# EAGLE library part AD7730 (library analog-devices)
Bridge Transducer ADC Source: http://www.analog.com/static/imported-files/data_sheets/AD7730_7730L.pdf
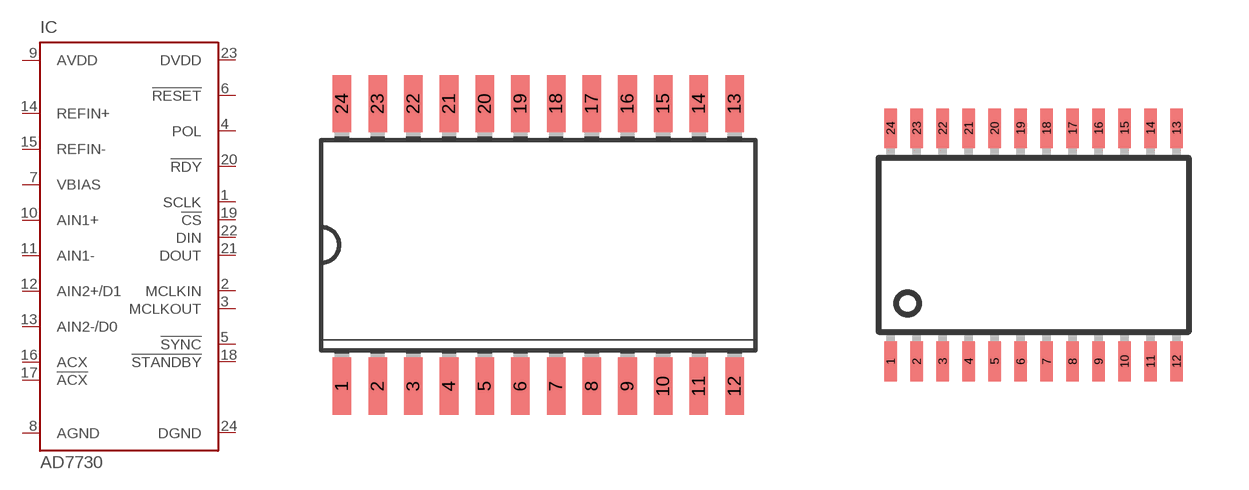
[diagram p93: symbol with the pads of SO24R; footprints SO24R, TSSOP24]

Designator prefix IC

## AD7730R (MF: ALTERA CORPORATION; MPN: AD7730LBRZ; OC_FARNELL: 1079295; OC_NEWARK: 59K5383)  [SO24R]
1  SCLK  in
2  MCLKIN  in
3  MCLKOUT  out
4  POL  in
5  !SYNC  in
6  !RESET  in
7  VBIAS  pas
8  AGND  in
9  AVDD  in
10  AIN1+  in
11  AIN1-  in
12  AIN2+/D1
13  AIN2-/D0
14  REFIN+  in
15  REFIN-  in
16  ACX  out
17  !ACX  out
18  !STANDBY  in
19  !CS  in
20  !RDY  out
21  DOUT  out
22  DIN  in
23  DVDD  in
24  DGND  in

## AD7730RU (MF: ALTERA CORPORATION; MPN: AD7730BRUZ; OC_FARNELL: 1423932; OC_NEWARK: 59K5374)  [TSSOP24]
Pads as for SO24R

## AD7730N (MF: ALTERA CORPORATION; MPN: AD7730BN; OC_FARNELL: 9605487; OC_NEWARK: 48F1987)  [DIL24-3]
Pads as for SO24R

## Footprint SO24R (pad centres in mm)
24-Lead Wide Body SOIC (R-24) Source: http://www.analog.com/UploadedFiles/Data_Sheets/39677768AD7714_c.pdf
smd 0.66 x 2.032: 1 -6.985,-5.029; 2 -5.715,-5.029; 3 -4.445,-5.029; 4 -3.175,-5.029; 5 -1.905,-5.029; 6 -0.635,-5.029; 7 0.635,-5.029; 8 1.905,-5.029; 9 3.175,-5.029; 10 4.445,-5.029; 11 5.715,-5.029; 12 6.985,-5.029; 13 6.985,5.029; 14 5.715,5.029; 15 4.445,5.029; 16 3.175,5.029; 17 1.905,5.029; 18 0.635,5.029; 19 -0.635,5.029; 20 -1.905,5.029; 21 -3.175,5.029; 22 -4.445,5.029; 23 -5.715,5.029; 24 -6.985,5.029

## Footprint TSSOP24 (pad centres in mm)
24-Lead Thin Shrink Small Outline Package TSSOP (RU-24) Source: http://www.analog.com/UploadedFiles/Data_Sheets/39677768AD7714_c.pdf
smd 0.305 x 0.991: 1 -3.575,-2.918; 2 -2.925,-2.918; 3 -2.275,-2.918; 4 -1.625,-2.918; 5 -0.975,-2.918; 6 -0.325,-2.918; 7 0.325,-2.918; 8 0.975,-2.918; 9 1.625,-2.918; 10 2.275,-2.918; 11 2.925,-2.918; 12 3.575,-2.918; 13 3.575,2.918; 14 2.925,2.918; 15 2.275,2.918; 16 1.625,2.918; 17 0.975,2.918; 18 0.325,2.918; 19 -0.325,2.918; 20 -0.975,2.918; 21 -1.625,2.918; 22 -2.275,2.918; 23 -2.925,2.918; 24 -3.575,2.918

## Footprint DIL24-3 (pad centres in mm)
Dual In Line Package 0.3 inch
drill 0.813 long: 1 -13.97,-3.81; 2 -11.43,-3.81; 3 -8.89,-3.81; 4 -6.35,-3.81; 5 -3.81,-3.81; 6 -1.27,-3.81; 7 1.27,-3.81; 8 3.81,-3.81; 9 6.35,-3.81; 10 8.89,-3.81; 11 11.43,-3.81; 12 13.97,-3.81; 13 13.97,3.81; 14 11.43,3.81; 15 8.89,3.81; 16 6.35,3.81; 17 3.81,3.81; 18 1.27,3.81; 19 -1.27,3.81; 20 -3.81,3.81; 21 -6.35,3.81; 22 -8.89,3.81; 23 -11.43,3.81; 24 -13.97,3.81